# EAGLE library part 62000811622 (library WR-WTB)
WR-WTB 2.00 mm Male Vertical Shrouded Header Kind Properties Pitch 2 mm Gender Male Type Vertical General Information Operating Temperature -40 °C up to +105 °C Working Voltage 250 V (AC) Withstanding Voltage 1000 V (AC) Contact Resistance 20 mΩ RISO 1000 MΩ Pitch 2.54 mm Gender Male Type Right Angled Top Locking Material Properties Insulator Material Nylon 66 Insulator Flammability Rating UL94 V-0 Insulator Color Beige Contact Material Copper Alloy Contact Plating Tin Contact Type Stamped Certification UL Approval E323964 Packaging Properties Packaging Bag Details see: www.we-online.com/en/components/products/WTB_2_00_MALE_VERTICAL_SHROUDED_HEADER_6200XX11622 Updated by Ella 2025-03-06 2025 (C) Würth Elektronik
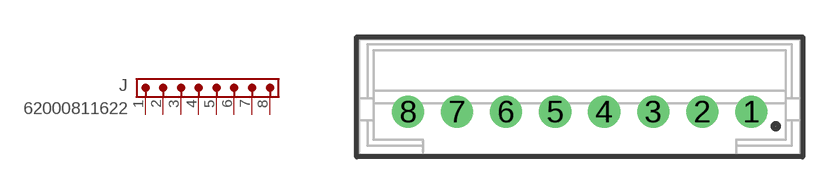
[diagram p103: symbol with the pads of 62000811622; footprint 62000811622]

Designator prefix J

## 62000811622 (CONTACT-RESISTANCE: 20mOhm; DATASHEET: https://www.we-online.com/redexpert/spec/62000811622?ae; GENDER: Male; IR: 2A; L: 18mm; MOUNT: THT; PACKAGING: Bag; PART-NUMBER: 62000811622; PCB-CABLE-PANEL: PCB; PINS: 8; PITCH: 2mm; TYPE: Vertical; VALUE: 62000811622; WORKING-VOLTAGE: 125V(AC))  [62000811622]
1  1  pas
2  2  pas
3  3  pas
4  4  pas
5  5  pas
6  6  pas
7  7  pas
8  8  pas

## Footprint 62000811622 (pad centres in mm)
WR-WTB 2.00 mm Male Vertical Shrouded Header,8 Pins
drill 0.8: 1 7,-0.6; 2 5,-0.6; 3 3,-0.6; 4 1,-0.6; 5 -1,-0.6; 6 -3,-0.6; 7 -5,-0.6; 8 -7,-0.6